# Altium footprint library LPEDT_proj_lib.PcbLib: 37 footprints (part 1 of 3)
Each footprint in its own frame and in the unit in brackets; x right, y up, seen from the top. Pads: shape width x height; smd on the part's side, far side on the other; paste and mask are expansions set on the pad; w line width, h text height; cw(c..) or ccw(c..) is an arc to the next point about the centre after c.
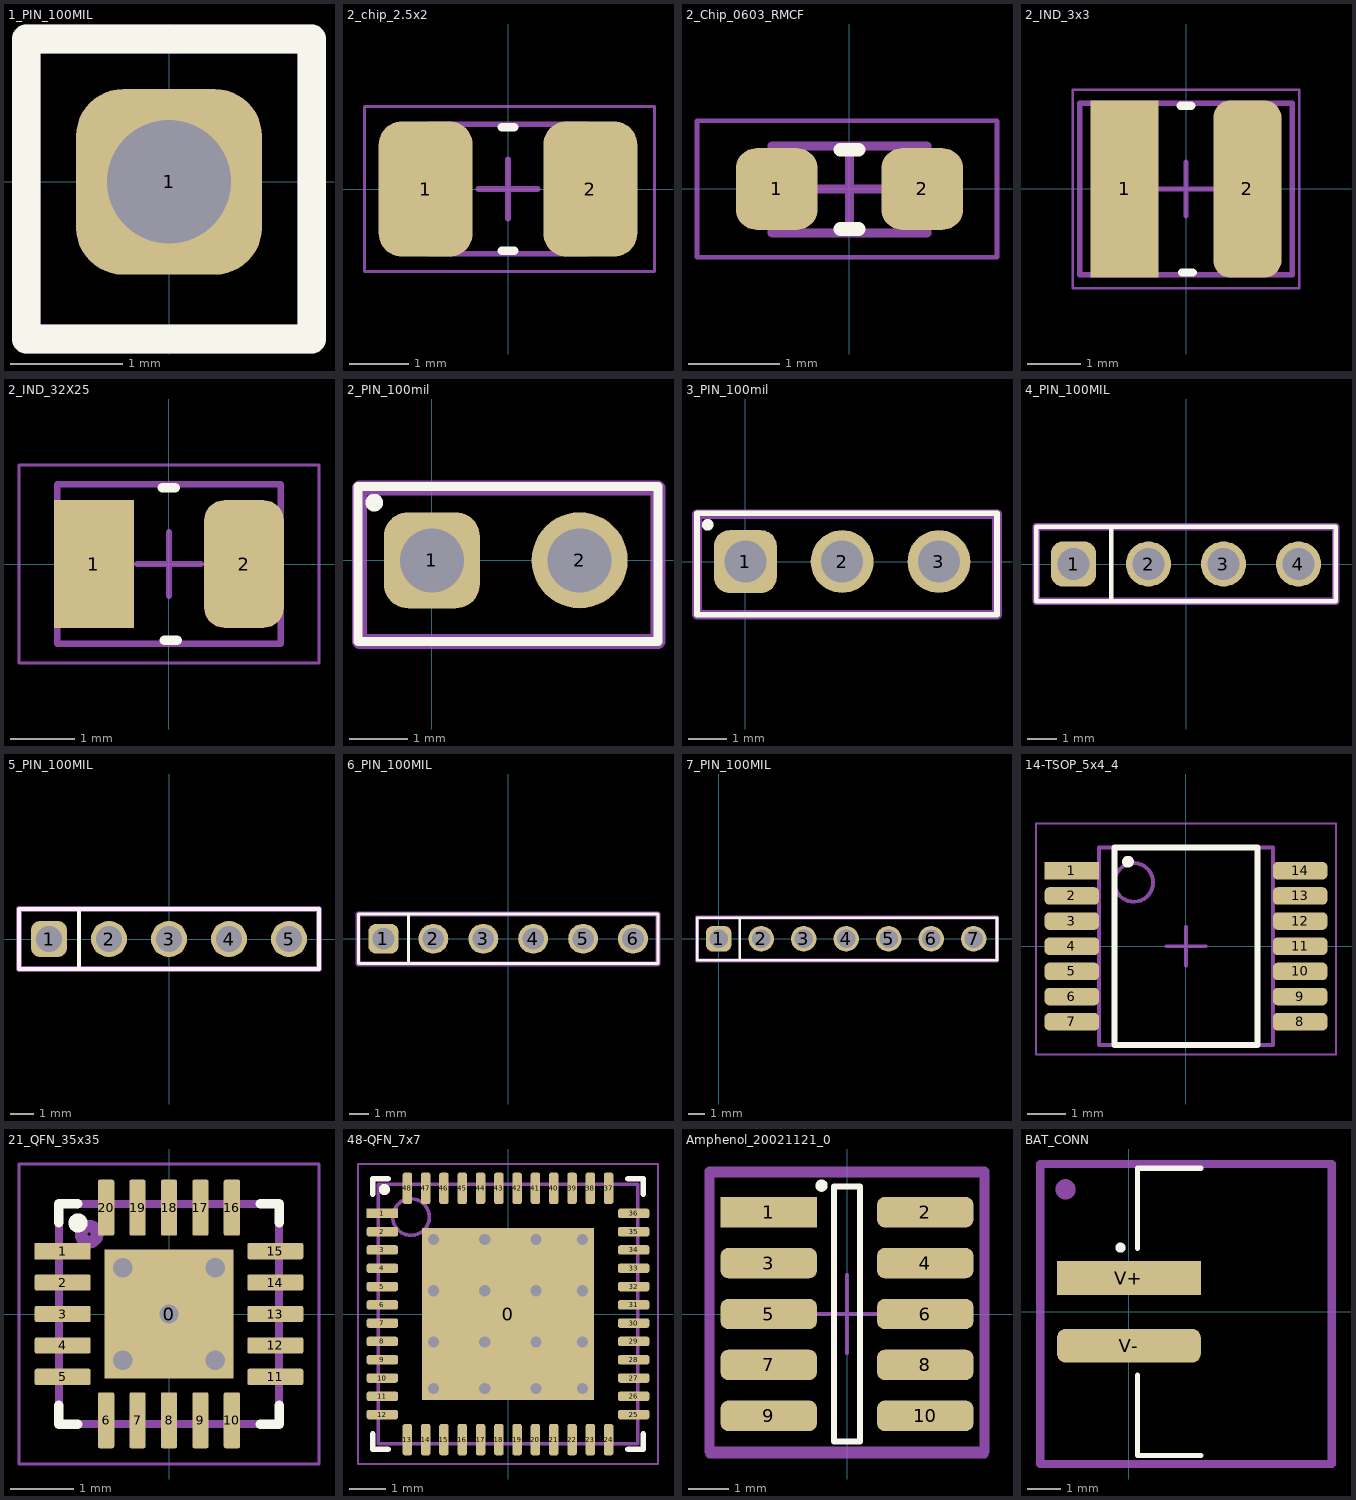
[diagram p0: the footprints below, top view; thin cyan lines are the x and y axes]

## 1_PIN_100MIL [mm]
pads (1):
  rrect50% 1.65x1.65 hole 1.1: 1(0,0)
Top Overlay:
  lines w0.254: -1.27,-1.397 1.27,-1.397 1.27,1.27 -1.27,1.27 -1.27,-1.397
Mechanical 13:
  lines w0.254: -1.27,-1.397 1.27,-1.397 1.27,1.27 -1.27,1.27 -1.27,-1.397
  text ".Designator" at -0.838,-0.83 h1.02
Mechanical 15:
  lines w0.254: -1.27,-1.397 1.27,-1.397 1.27,1.27 -1.27,1.27 -1.27,-1.397
3D body "TSW-101-07-G-S.stp": height 8.38, standoff -2.54, extent -1.27,-1.27 1.27,1.27

## 2_chip_2.5x2 [mm]
height 1.2
pads (2):
  rrect50% 1.6x2.3 smd: 1(-1.4,0) 2(1.4,0)
Top Overlay:
  lines w0.152: -0.1,-1.05 0.1,-1.05 ; -0.1,1.05 0.1,1.05
Mechanical 13:
  lines w0.1: -1.35,-1.1 1.35,-1.1 1.35,1.1 -1.35,1.1 -1.35,-1.1
  text ".Designator" at -1.118,-0.533 h0.76
Mechanical 15:
  lines w0.05: -2.438,-1.4 2.489,-1.4 2.489,1.4 -2.438,1.4 -2.438,-1.4
  lines w0.1: -0.5,0 0.5,0 ; 0,-0.5 0,0.5
3D body "2_chip_2.5x2.step": height 1.2, standoff 0, extent -1.35,-1.1 1.35,1.1

## 2_Chip_0603_RMCF [mm] "Chip Resistor, 2-Leads, Body 1.55x0.80mm, IPC Medium Density"
height 0.6
pads (2):
  rrect50% 0.9x0.9 smd: 1(-0.8,0) 2(0.8,0)
Top Overlay:
  lines w0.152: -0.102,0.432 0.098,0.432 ; -0.1,-0.44 0.1,-0.44
Mechanical 13:
  lines w0.1: -0.85,-0.483 0.85,-0.483 0.85,0.475 -0.85,0.475 -0.85,-0.483
  text ".Designator" at -0.723,-0.179 h0.51
Mechanical 15:
  lines w0.05: -1.677,-0.75 -1.677,0.75 1.622,0.75 1.622,-0.75 -1.677,-0.75
  lines w0.1: -0.475,0 0.475,0 ; 0,-0.475 0,0.475
3D body "2_Chip_0603_RMCF.step": height 0.6, standoff 0, extent -0.85,-0.475 0.85,0.475

## 2_IND_3x3 [mil] "Precision Wire Wound Inductor, 2-Leads, Body 3.00x3.00mm, IPC Medium Density"
height 59.06
pads (2):
  rect 50x130 smd: 1(-45,0)
  rrect50% 50x130 smd: 2(45,0)
Top Overlay:
  lines w6: -4,61 3.87,61 ; -2.94,-61.34 4.94,-61.34
Mechanical 13:
  lines w3.94: -78,-62.99 -78,62.99 78,62.99 78,-62.99 -78,-62.99
  text ".Designator" at -54.99,-41.66 h40
Mechanical 15:
  lines w1.97: -83,-72.83 -83,72.83 83,72.83 83,-72.83 -83,-72.83
  lines w3.94: -19.69,0 19.68,0 ; 0,-19.69 0,19.68
3D body "vls3015cx-1.step": height 58.66, standoff -0.39, extent -59.13,-59.4 59.13,59.4

## 2_IND_32X25 [mm] "4.7 µH Shielded Wirewound Inductor 1 A 180mOhm Nonstandard"
height 1.7
pads (2):
  rect 1.25x2 smd: 1(-1.175,0)
  rrect50% 1.25x2 smd: 2(1.175,0)
Top Overlay:
  lines w0.152: -0.102,1.194 0.098,1.194 ; -0.076,-1.194 0.124,-1.194
Mechanical 13:
  lines w0.1: -1.75,-1.25 -1.75,1.25 1.75,1.25 1.75,-1.25 -1.75,-1.25
  text ".Designator" at -1.451,-0.576 h1.1
Mechanical 15:
  lines w0.05: -2.35,-1.55 -2.35,1.55 2.35,1.55 2.35,-1.55 -2.35,-1.55
  lines w0.1: -0.5,0 0.5,0 ; 0,-0.5 0,0.5
3D body "LQH32PH4R7NNCL.STEP": height 1.7, standoff 0, extent -1.6,-1.25 1.6,1.25

## 2_PIN_100mil [mm]
pads (2):
  rrect50% 1.65x1.65 hole 1.1: 1(0,0)
  round 1.65 hole 1.1: 2(2.54,0)
Top Overlay:
  circle w0.152: c-0.991,0.991 r0.076
  lines w0.152: -1.27,-1.397 3.886,-1.397 3.886,1.27 -1.27,1.27 -1.27,-1.397
Mechanical 13:
  lines w0.254: -1.245,-1.397 3.886,-1.397 3.886,1.245 -1.245,1.245 -1.245,-1.397
  text ".Designator" at -0.838,-0.83 h1.02
3D body "102972-2--3DModel-STEP-1.STEP": height 10.36, standoff -3.17, extent -1.067,-1.219 3.607,1.118

## 3_PIN_100mil [mm]
pads (3):
  rrect50% 1.65x1.65 hole 1.1: 1(0,0)
  round 1.65 hole 1.1: 2(2.54,0) 3(5.08,0)
Top Overlay:
  circle w0.152: c-0.991,0.965 r0.076
  lines w0.152: -1.27,-1.397 -1.27,1.27 6.604,1.27 6.604,-1.397 -1.27,-1.397
Mechanical 13:
  lines w0.254: -1.27,-1.397 6.604,-1.397 6.604,1.245 -1.27,1.245 -1.27,-1.397
  text ".Designator" at -0.864,-0.83 h1.02
3D body "3Pin_PREC003SAAN-RC.STEP": height 8.38, standoff -3.05, extent -1.143,-1.27 6.477,1.27

## 4_PIN_100MIL [mil]
pads (4):
  rrect50% 60x60 hole 43.31: 1(-150,0)
  round 60 hole 43.31: 2(-50,0) 3(50,0) 4(150,0)
Top Overlay:
  lines w6: -100,-50 -100,50 ; -200,-50 -200,50 200,50 200,-50 -200,-50
Mechanical 13:
  lines w10: -200,-50 200,-50 200,50 -200,50 -200,-50
  text ".Designator" at -167,-23.67 h40
3D body "5-146274-4--3DModel-STEP-1.STEP": height 409, standoff -124, extent -192,-44 192,48

## 5_PIN_100MIL [mil]
pads (5):
  rrect50% 60x60 hole 43.31: 1(-200,0)
  round 60 hole 43.31: 2(-100,0) 3(0,0) 4(100,0) 5(200,0)
Top Overlay:
  lines w6: -150,-50 -150,50 ; -250,-50 250,-50 250,50 -250,50 -250,-50
Mechanical 13:
  lines w10: -250,-50 250,-50 250,50 -250,50 -250,-50
  text ".Designator" at -217,-23.67 h40
Mechanical 15:
  lines w10: -250,-50 250,-50 250,50 -250,50 -250,-50
3D body "TSW-105-05-T-S.stp": height 206, standoff -129, extent -250,-50 255,50

## 6_PIN_100MIL [mil]
pads (6):
  rrect50% 60x60 hole 43.31: 1(-250,0)
  round 60 hole 43.31: 2(-150,0) 3(-50,0) 4(50,0) 5(150,0) 6(250,0)
Top Overlay:
  lines w6: -200,-50 -200,50 ; -300,-50 -300,50 300,50 300,-50 -300,-50
Mechanical 13:
  lines w10: -301,-51 300,-51 300,50 -301,50 -301,-51
  text ".Designator" at -172,-23.67 h40
3D body "TSW-106-23-T-S.stp": height 331, standoff -114, extent -300,-50 305,50

## 7_PIN_100MIL [mil]
pads (7):
  rrect50% 60x60 hole 43.31: 1(0,0)
  round 60 hole 43.31: 2(100,0) 3(200,0) 4(300,0) 5(400,0) 6(500,0) 7(600,0)
Top Overlay:
  lines w6: 50,-50 50,50 ; -50,-50 655,-50 655,50 -50,50 -50,-50
Mechanical 13:
  lines w10: -51,-51 655,-51 655,50 -51,50 -51,-51
  text ".Designator" at 332,-26.67 h40
3D body "TSW-107-07-L-S.stp": height 331, standoff -99, extent -48.5,-50 656.5,50

## 14-TSOP_5x4_4 [mm] "TSOP, 14-Leads, Body 5.00x4.40mm, Pitch 0.65mm, IPC Medium Density"
height 1.2
pads (14):
  rect 1.4x0.45 smd mask+0.051: 1(-2.95,1.95)
  rrect50% 1.4x0.45 smd mask+0.051: 2(-2.95,1.3) 3(-2.95,0.65) 4(-2.95,0) 5(-2.95,-0.65) 6(-2.95,-1.3) 7(-2.95,-1.95) 8(2.95,-1.95) 9(2.95,-1.3) 10(2.95,-0.65) 11(2.95,0) 12(2.95,0.65) 13(2.95,1.3) 14(2.95,1.95)
Top Overlay:
  circle w0.152: c-1.499,2.184 r0.076
  lines w0.152: -1.85,-2.55 -1.85,2.55 1.85,2.55 1.85,-2.55 -1.85,-2.55
Mechanical 13:
  circle w0.1: c-1.35,1.65 r0.5
  lines w0.1: -2.25,-2.55 -2.25,2.55 2.25,2.55 2.25,-2.55 -2.25,-2.55
  text ".Designator" at -1.778,-1.736 h1.27
Mechanical 15:
  lines w0.05: -3.875,-2.8 -3.875,3.175 3.875,3.175 3.875,-2.8 -3.875,-2.8
  lines w0.1: -0.5,0 0.5,0 ; 0,-0.5 0,0.5
3D body "14-TSOP_5x4_4.step": height 1.2, standoff 0, extent -3.2,-2.55 3.2,2.55

## 21_QFN_35x35 [mm]
pads (21):
  rect 2.05x2.05 smd paste-1.025 mask+0.051: 0(0,0)
  rect 0.89x0.26 smd mask+0.051: 1(-1.69,1)
  rrect25% 0.89x0.26 smd mask+0.051: 2(-1.69,0.5) 3(-1.69,0) 4(-1.69,-0.5) 5(-1.69,-1) 11(1.69,-1) 12(1.69,-0.5) 13(1.69,0) 14(1.69,0.5) 15(1.69,1)
  rrect25% 0.26x0.89 smd mask+0.051: 6(-1,-1.69) 7(-0.5,-1.69) 8(0,-1.69) 9(0.5,-1.69) 10(1,-1.69) 16(1,1.69) 17(0.5,1.69) 18(0,1.69) 19(-0.5,1.69) 20(-1,1.69)
via -0.737,0.737 diameter 0.559 hole 0.305
via 0.737,0.737 diameter 0.559 hole 0.305
via -0.737,-0.737 diameter 0.559 hole 0.305
via 0.737,-0.737 diameter 0.559 hole 0.305
via 0,0 diameter 0.559 hole 0.305
Top Overlay:
  circle w0.152: c-1.448,1.448 r0.076
  lines w0.152: -1.75,-1.45 -1.75,-1.75 -1.45,-1.75 ; -1.75,1.45 -1.75,1.75 -1.45,1.75 ; 1.45,-1.75 1.75,-1.75 1.75,-1.45 ; 1.45,1.75 1.75,1.75 1.75,1.45
Top Paste:
  region: -0.448,1.02 -0.458,1.01 -0.458,0.483 0.456,0.483 0.456,1.02 -0.458,1.02
  region: -0.461,-0.483 -0.461,-1.024 0.462,-1.024 0.462,-0.483
  region: 0.284,-0.444 0.294,-0.454 1.02,-0.454 1.02,0.46 0.284,0.46 0.284,-0.454
  region: -1.022,-0.454 -1.012,-0.464 -0.286,-0.464 -0.286,0.45 -1.022,0.45 -1.022,-0.464
Mechanical 13:
  circle w0.2: c-1.27,1.27 r0.127
  lines w0.127: -1.75,-1.75 -1.75,1.75 1.75,1.75 1.75,-1.75 -1.75,-1.75
  text ".Designator" at -1.321,-1.109 h1.02
Mechanical 15:
  lines w0.05: -2.385,-2.385 -2.385,2.385 2.385,2.385 2.385,-2.385 -2.385,-2.385
3D body "step_temp.STEP": height 1, standoff 0, extent -1.75,-1.75 1.75,1.75

## 48-QFN_7x7 [mm] "QFN, 48-Leads, Body 7.00x7.00mm, Pitch 0.50mm, Thermal Pad 4.70x4.70mm, IPC Medium Density"
height 0.9
pads (49):
  rect 4.7x4.7 smd paste-2.35 mask+0.051: 0(0,0)
  rect 0.86x0.26 smd mask+0.051: 1(-3.435,2.75)
  rrect50% 0.86x0.26 smd mask+0.051: 2(-3.435,2.25) 3(-3.435,1.75) 4(-3.435,1.25) 5(-3.435,0.75) 6(-3.435,0.25) 7(-3.435,-0.25) 8(-3.435,-0.75) 9(-3.435,-1.25) 10(-3.435,-1.75) 11(-3.435,-2.25) 12(-3.435,-2.75) 25(3.435,-2.75) 26(3.435,-2.25) 27(3.435,-1.75) 28(3.435,-1.25) 29(3.435,-0.75) 30(3.435,-0.25) 31(3.435,0.25) 32(3.435,0.75) 33(3.435,1.25) 34(3.435,1.75) 35(3.435,2.25) 36(3.435,2.75)
  rrect50% 0.26x0.86 smd mask+0.051: 13(-2.75,-3.435) 14(-2.25,-3.435) 15(-1.75,-3.435) 16(-1.25,-3.435) 17(-0.75,-3.435) 18(-0.25,-3.435) 19(0.25,-3.435) 20(0.75,-3.435) 21(1.25,-3.435) 22(1.75,-3.435) 23(2.25,-3.435) 24(2.75,-3.435) 37(2.75,3.435) 38(2.25,3.435) 39(1.75,3.435) 40(1.25,3.435) 41(0.75,3.435) 42(0.25,3.435) 43(-0.25,3.435) 44(-0.75,3.435) 45(-1.25,3.435) 46(-1.75,3.435) 47(-2.25,3.435) 48(-2.75,3.435)
via -2.032,0.635 diameter 0.61 hole 0.305
via -2.032,2.032 diameter 0.61 hole 0.305
via -0.635,2.032 diameter 0.559 hole 0.305
via 0.762,2.032 diameter 0.559 hole 0.305
via 2.032,2.032 diameter 0.559 hole 0.305
via -0.635,0.635 diameter 0.559 hole 0.305
via 0.762,0.635 diameter 0.559 hole 0.305
via 2.032,0.635 diameter 0.559 hole 0.305
via -2.032,-0.762 diameter 0.559 hole 0.305
via -0.635,-0.762 diameter 0.559 hole 0.305
via 0.762,-0.762 diameter 0.559 hole 0.305
via 2.032,-0.762 diameter 0.559 hole 0.305
via -0.635,-2.032 diameter 0.559 hole 0.305
via 0.762,-2.032 diameter 0.559 hole 0.305
via 2.032,-2.032 diameter 0.559 hole 0.305
via -2.032,-2.032 diameter 0.559 hole 0.305
Top Overlay:
  circle w0.152: c-3.378,3.404 r0.076
  lines w0.152: -3.7,-3.28 -3.7,-3.7 -3.28,-3.7 ; -3.7,3.28 -3.7,3.7 -3.28,3.7 ; 3.28,-3.7 3.7,-3.7 3.7,-3.28 ; 3.28,3.7 3.7,3.7 3.7,3.28
Top Paste:
  region: -1.767,1.902 -1.767,0.783 -0.87,0.783 -0.858,0.795 -0.858,1.902
  region: -0.392,1.902 -0.392,0.783 0.505,0.783 0.517,0.795 0.517,1.902
  region: 0.937,1.902 0.937,0.783 1.834,0.783 1.846,0.795 1.846,1.902
  region: -1.785,0.48 -1.785,-0.639 -0.887,-0.639 -0.876,-0.627 -0.876,0.48
  region: -0.392,0.492 -0.392,-0.627 0.505,-0.627 0.517,-0.615 0.517,0.492
  region: 0.919,0.492 0.919,-0.627 1.817,-0.627 1.828,-0.615 1.828,0.492
  region: -1.796,-0.86 -1.796,-1.979 -0.899,-1.979 -0.887,-1.967 -0.887,-0.86
  region: -0.398,-0.878 -0.398,-1.996 0.5,-1.996 0.511,-1.985 0.511,-0.878
  region: 0.931,-0.86 0.931,-1.979 1.828,-1.979 1.84,-1.967 1.84,-0.86
Mechanical 13:
  circle w0.1: c-2.65,2.65 r0.5
  lines w0.1: -3.55,-3.55 -3.55,3.55 3.55,3.55 3.55,-3.55 -3.55,-3.55
  text ".Designator" at -3.175,-3.048 h1.52
Mechanical 15:
  lines w0.05: -4.1,-4.1 -4.1,4.1 4.1,4.1 4.1,-4.1 -4.1,-4.1
  lines w0.1: -0.5,0 0.5,0 ; 0,-0.5 0,0.5
3D body "48-QFN_7x7.step": height 0.9, standoff 0, extent -3.551,-3.551 3.551,3.551

## Amphenol_20021121_0 [mm]
pads (10):
  rect 2.4x0.76 smd paste+0 mask+0.051: 1(-1.95,2.54)
  rrect50% 2.4x0.76 smd paste+0 mask+0.051: 2(1.95,2.54) 3(-1.95,1.27) 4(1.95,1.27) 5(-1.95,0) 6(1.95,0) 7(-1.95,-1.27) 8(1.95,-1.27) 9(-1.95,-2.54) 10(1.95,-2.54)
Top Overlay:
  circle w0.152: c-0.635,3.2 r0.076
  lines w0.152: -0.325,-3.175 0.325,-3.175 0.325,3.175 -0.325,3.175 -0.325,-3.175
Mechanical 13:
  lines w0.254: -3.429,-3.429 -3.429,3.556 3.429,3.556 3.429,-3.429 -3.429,-3.429
  text ".Designator" at -2.921,-2.413 h1.52
Mechanical 15:
  lines w0.1: -0.975,0 0.975,0 ; 0,-0.975 0,0.975
  lines w0.2: -3.429,-3.5 3.429,-3.5 3.429,3.5 -3.429,3.5 -3.429,-3.5
3D body "20021121-00010C1LF--3DModel-STEP-533217.STEP": height 4.51, standoff 0.01, extent -2.75,-3.175 2.75,3.175

## BAT_CONN [mil] "2.00MM_PITCH"
pads (2):
  rect 170x40 smd paste+0 mask+2: V+(0,40)
  rrect50% 170x40 smd paste+0 mask+2: V-(0,-40)
Top Overlay:
  circle w6: c-10,76 r3
  lines w6: 10,-75 10,-170 85,-170 ; 10,75 10,170 85,170
Mechanical 13:
  circle w14: c-75,145 r5
  lines w10: -105,-180 240,-180 240,175 -105,175 -105,-180
  text ".Designator" at -80,-135.01 h60
Mechanical 15:
  lines w10: -105,-180 240,-180 240,175 -105,175 -105,-180
3D body "554600272.stp": height 274.8, standoff -0.8, extent -48.31,-159.45 209.57,159.45